# Altium schematic symbol library 640445-6.SchLib: 1 symbol
Pins are listed as number, name and electrical type; pins without a type are passive.

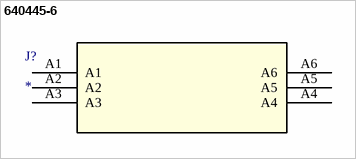
[diagram p0: symbol 640445-6]

## 640445-6
designator J?
No Description Available; Mfr_Name: TE Connectivity; RefDes: RefDes; Type: Type
footprint 640445-6_TYC
pins: A1, A2, A3, A4, A5, A6